# Altium footprint library CurrentSenseOpAmp.PcbLib: 1 footprints
Each footprint in its own frame and in the unit in brackets; x right, y up, seen from the top. Pads: shape width x height; smd on the part's side, far side on the other; paste and mask are expansions set on the pad; w line width, h text height; cw(c..) or ccw(c..) is an arc to the next point about the centre after c.
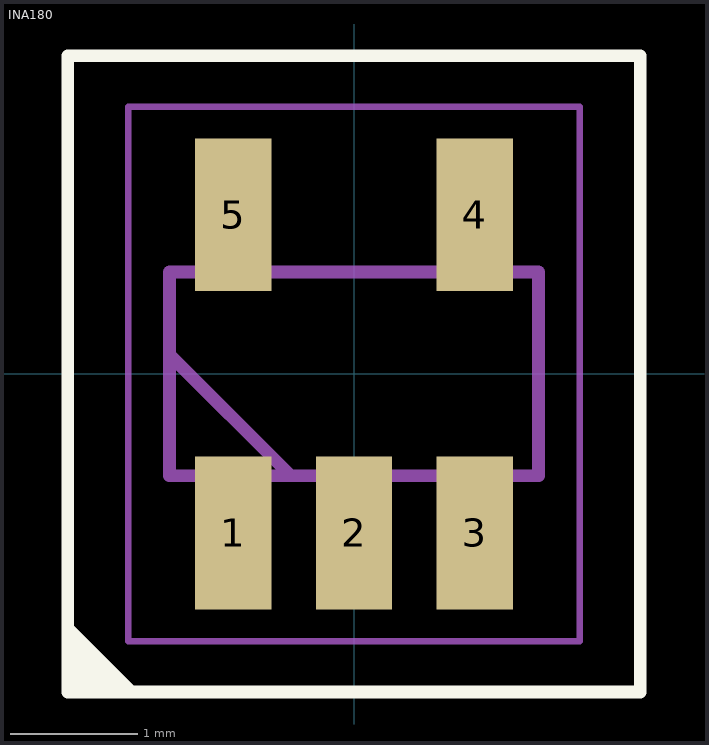
[diagram p0: the footprint, top view; thin cyan lines are the x and y axes]

## INA180 [mm]
pads (5):
  rect 0.6x1.2 smd mask+0.06: 1(-0.95,-1.25) 2(0,-1.25)
  rect 0.6x1.2 smd: 3(0.95,-1.25) 4(0.95,1.25) 5(-0.95,1.25)
Top Overlay:
  lines w0.1: -2.215,-2.251 -2.215,-2.416 -2.129,-2.502 -2.02,-2.502 -2.231,-2.29 -2.231,-2.189 -1.934,-2.486 -1.847,-2.486 -2.25,-2.084 -2.25,-2 -1.75,-2.5 ; -1.75,-2.5 -1.75,-2.5 ; -2.25,-2.5 2.25,-2.5 2.25,2.5 -2.25,2.5 -2.25,-2.5
Mechanical 13:
  lines w0.1: -1.45,0.15 -0.5,-0.8 ; -1.45,-0.8 1.45,-0.8 1.45,0.8 -1.45,0.8 -1.45,-0.8
Mechanical 15:
  lines w0.05: -1.775,-2.1 1.775,-2.1 1.775,2.1 -1.775,2.1 -1.775,-2.1
3D body "INA180A3IDBVR.stp": height 1.2, standoff 0, extent -1.45,-1.4 1.45,1.4